# EAGLE library part IC_MC145170 (library psas_eagle_library)
Single chip VHF synthesizer
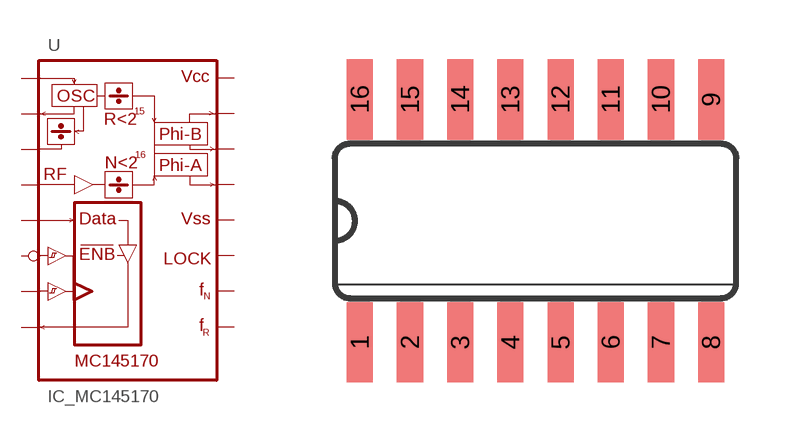
[diagram p30: symbol with the pads of SO16; footprint SO16]

Designator prefix U

## IC_MC145170D  [SO16]
1  OSC_IN  pas
2  OSC_OUT  pas
3  REF  pas
4  RFIN  pas
5  DIN  in
6  ENB\  in
7  CLK  in
8  DOUT  out
9  F_R  pas
10  F_N  pas
11  LD  pas
12  VSS  sup
13  PHI_A  pas
14  PHI_R  pas
15  PHI_N  pas
16  VCC  sup

## Footprint SO16 (pad centres in mm)
SO16 150 mil
smd 0.66 x 2.032: 1 -4.445,-3.073; 2 -3.175,-3.073; 3 -1.905,-3.073; 4 -0.635,-3.073; 5 0.635,-3.073; 6 1.905,-3.073; 7 3.175,-3.073; 8 4.445,-3.073; 9 4.445,3.073; 10 3.175,3.073; 11 1.905,3.073; 12 0.635,3.073; 13 -0.635,3.073; 14 -1.905,3.073; 15 -3.175,3.073; 16 -4.445,3.073